# Altium footprint library PCB - IC-Memory - AT24CM02-SSHD-T.PcbLib: 1 footprints
Each footprint in its own frame and in the unit in brackets; x right, y up, seen from the top. Pads: shape width x height; smd on the part's side, far side on the other; paste and mask are expansions set on the pad; w line width, h text height; cw(c..) or ccw(c..) is an arc to the next point about the centre after c.
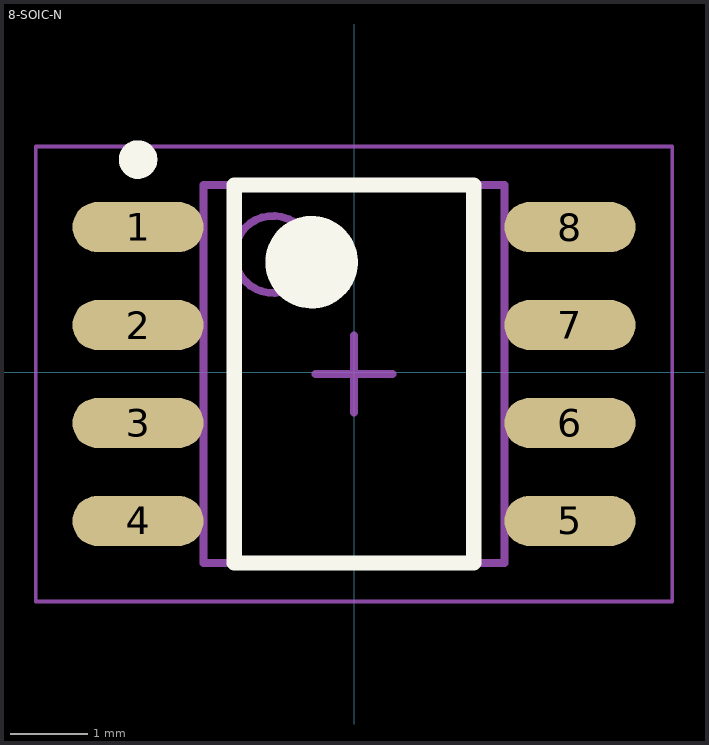
[diagram p0: the footprint, top view; thin cyan lines are the x and y axes]

## 8-SOIC-N [mm]
pads (8):
  oval 1.7x0.65 smd: 1(-2.8,1.88) 2(-2.8,0.61) 3(-2.8,-0.66) 4(-2.8,-1.93) 5(2.8,-1.93) 6(2.8,-0.66) 7(2.8,0.61) 8(2.8,1.88)
Top Overlay:
  circle w0.25: c-2.8,2.755 r0.125
  circle w0.6: c-0.55,1.425 r0.3
  lines w0.2: -1.55,-2.475 -1.55,2.425 1.55,2.425 1.55,-2.475 -1.55,-2.475
Mechanical 2:
  circle w0.1: c-1.05,1.525 r0.5
  lines w0.1: -1.95,-2.475 -1.95,2.425 1.95,2.425 1.95,-2.475 -1.95,-2.475
Mechanical 4:
  lines w0.05: -4.125,-2.975 -4.125,2.925 4.125,2.925 4.125,-2.975 -4.125,-2.975
  lines w0.1: -0.5,-0.025 0.5,-0.025 ; 0,-0.525 0,0.475
3D body "AT24CM02.step": height 1.75, standoff 0, extent -3,-2.475 3,2.425